# Altium footprint library PCB - CONNECTOR - SAMTEC TSW-105-07-G-D.PCBLIB: 1 footprints
Each footprint in its own frame and in the unit in brackets; x right, y up, seen from the top. Pads: shape width x height; smd on the part's side, far side on the other; paste and mask are expansions set on the pad; w line width, h text height; cw(c..) or ccw(c..) is an arc to the next point about the centre after c.
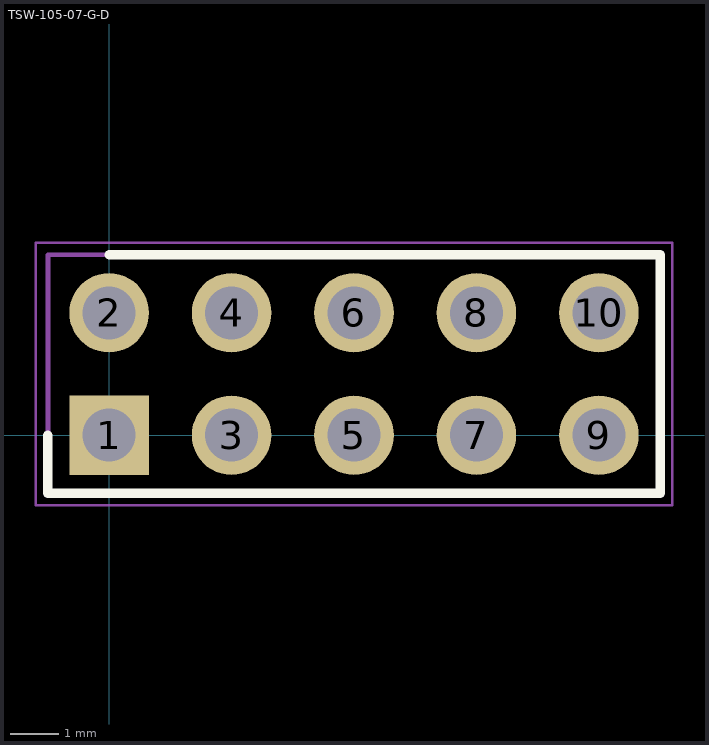
[diagram p0: the footprint, top view; thin cyan lines are the x and y axes]

## TSW-105-07-G-D [mm]
pads (10):
  rect 1.65x1.65 hole 1.1: 1(0,0)
  round 1.65 hole 1.1: 2(0,2.54) 3(2.54,0) 4(2.54,2.54) 5(5.08,0) 6(5.08,2.54) 7(7.62,0) 8(7.62,2.54) 9(10.16,0) 10(10.16,2.54)
Top Overlay:
  lines w0.2: -1.27,0 -1.27,-1.205 11.43,-1.205 11.43,3.745 0,3.745
Top Assembly:
  lines w0.1: -1.27,-1.205 11.43,-1.205 11.43,3.745 -1.27,3.745 -1.27,-1.205
  text ".Designator" at 0.762,4.318 h1.52
Top Courtyard (Mech7):
  lines w0.05: -1.52,-1.455 11.68,-1.455 11.68,3.995 -1.52,3.995 -1.52,-1.455
3D body "TSW-105-07-G-D.stp": height 8.38, standoff -2.54, extent -1.27,-1.205 11.43,3.745